# EAGLE library part HDR-1X9 (library Digilent)
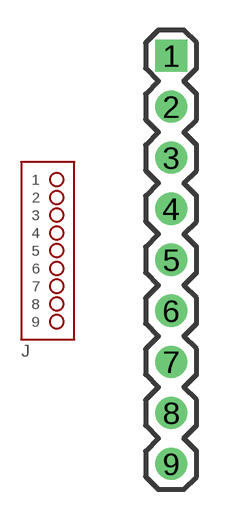
[diagram p27: symbol with the pads of HDR-1X9; footprint HDR-1X9]

Designator prefix J

## HDR-1X9  [HDR-1X9]
1  1  pas
2  2  pas
3  3  pas
4  4  pas
5  5  pas
6  6  pas
7  7  pas
8  8  pas
9  9  pas

## Footprint HDR-1X9 (pad centres in mm)
drill 1.067 square: 1 0,10.16
drill 1.067 round: 2 0,7.62; 3 0,5.08; 4 0,2.54; 5 0,0; 6 0,-2.54; 7 0,-5.08; 8 0,-7.62; 9 0,-10.16